# EAGLE library part BTN8982TA (library rpibout)
BTN8982TA High Current PN Half Bridge
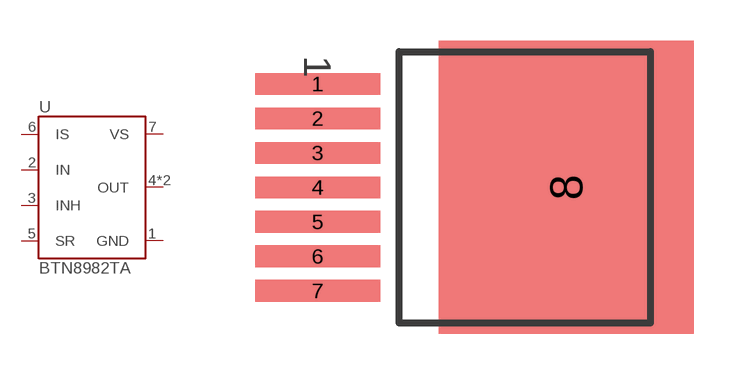
[diagram p3: symbol with the pads of TO263-7; footprint TO263-7]

Designator prefix U

## BTN8982TA  [TO263-7]
1  GND  pwr
2  IN  in
3  INH  in
4  OUT  pas
5  SR  pas
6  IS  out
7  VS  pas
8  OUT  pas

## Footprint TO263-7 (pad centres in mm)
TO263-7
smd 4.6 x 0.8: 1 -3,3.81; 2 -3,2.54; 3 -3,1.27; 4 -3,0; 5 -3,-1.27; 6 -3,-2.54; 7 -3,-3.81
smd 9.4 x 10.8: 8 6.15,0